# EAGLE library part 6623XX235922_662306235922 (library Wurth_Connectors_WR-MPC3)
WR-MPC3 3.00 mm SMT Male Dual Row Vertical Header with THT Retention Clip (Reel) KIND PROPERTIES Pitch 3 mm Gender Male MATERIAL PROPERTIES Insulator Material LCP Insulator Flammability Rating UL94 V-0 Insulator Color Black Contact Material Copper Alloy Contact Plating Tin Contact Type Stamped GENERAL INFORMATION Operating Temperature -40 up to +105 °C Working Voltage 250 V (AC) Withstanding Voltage 1500 V (AC) Contact Resistance 10 mΩ RISO 1000 MΩ CERTIFICATION UL Approval E323964 WIRE PROPERTIES Packaging Tape and Reel with Cap <https://katalog.we-online.com/media/images/v2/o33178v209%20Family_WR-MPC3_662xxx235922.jpg> Details see: https://katalog.we-online.com/en/em/MPC3_3_00_SMT_MALE_DUAL_ROW_VERTICAL_HEADER_W_THT_RETENTION_CLIP_REEL_6623XX235922 Created by Yingchun,Shan 2019-11-13 2019 (C) Würth Elektronik
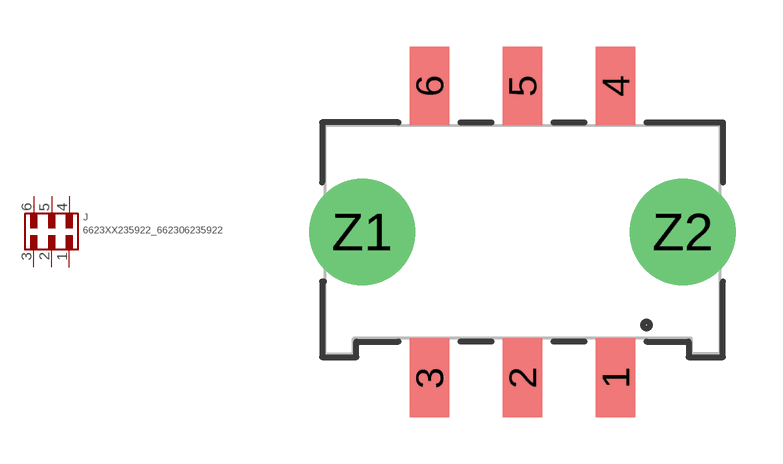
[diagram p7: symbol with the pads of 662306235922; footprint 662306235922]

Designator prefix J

## 6623XX235922_662306235922 (CONTACT-RESISTANCE: 10Ohm; DATASHEET-URL: https://www.we-online.com/redexpert/spec/662306235922?ae; GENDER: Male; IR: 5A; MOUNT: SMT; PART-NUMBER: 662306235922; PINS: 6; PITCH: 3mm; ROWS: Dual; TOL-R: max.; TYPE: Vertical; VALUE: 662306235922; WORKING-VOLTAGE: 250V(AC))  [662306235922]
1  1  pas
2  2  pas
3  3  pas
4  4  pas
5  5  pas
6  6  pas

## Footprint 662306235922 (pad centres in mm)
WR-MPC3 3.00 mm SMT Male Dual Row Vertical Header with THT Retention Clip (Reel),6Pins
smd 1.27 x 2.54: 1 3,-4.7; 2 0,-4.7; 3 -3,-4.7; 4 3,4.7; 5 0,4.7; 6 -3,4.7
drill 2.41: Z1 -5.16,0; Z2 5.16,0